# Altium footprint library cicloV2_lib.PcbLib: 18 footprints (part 1 of 2)
Each footprint in its own frame and in the unit in brackets; x right, y up, seen from the top. Pads: shape width x height; smd on the part's side, far side on the other; paste and mask are expansions set on the pad; w line width, h text height; cw(c..) or ccw(c..) is an arc to the next point about the centre after c.
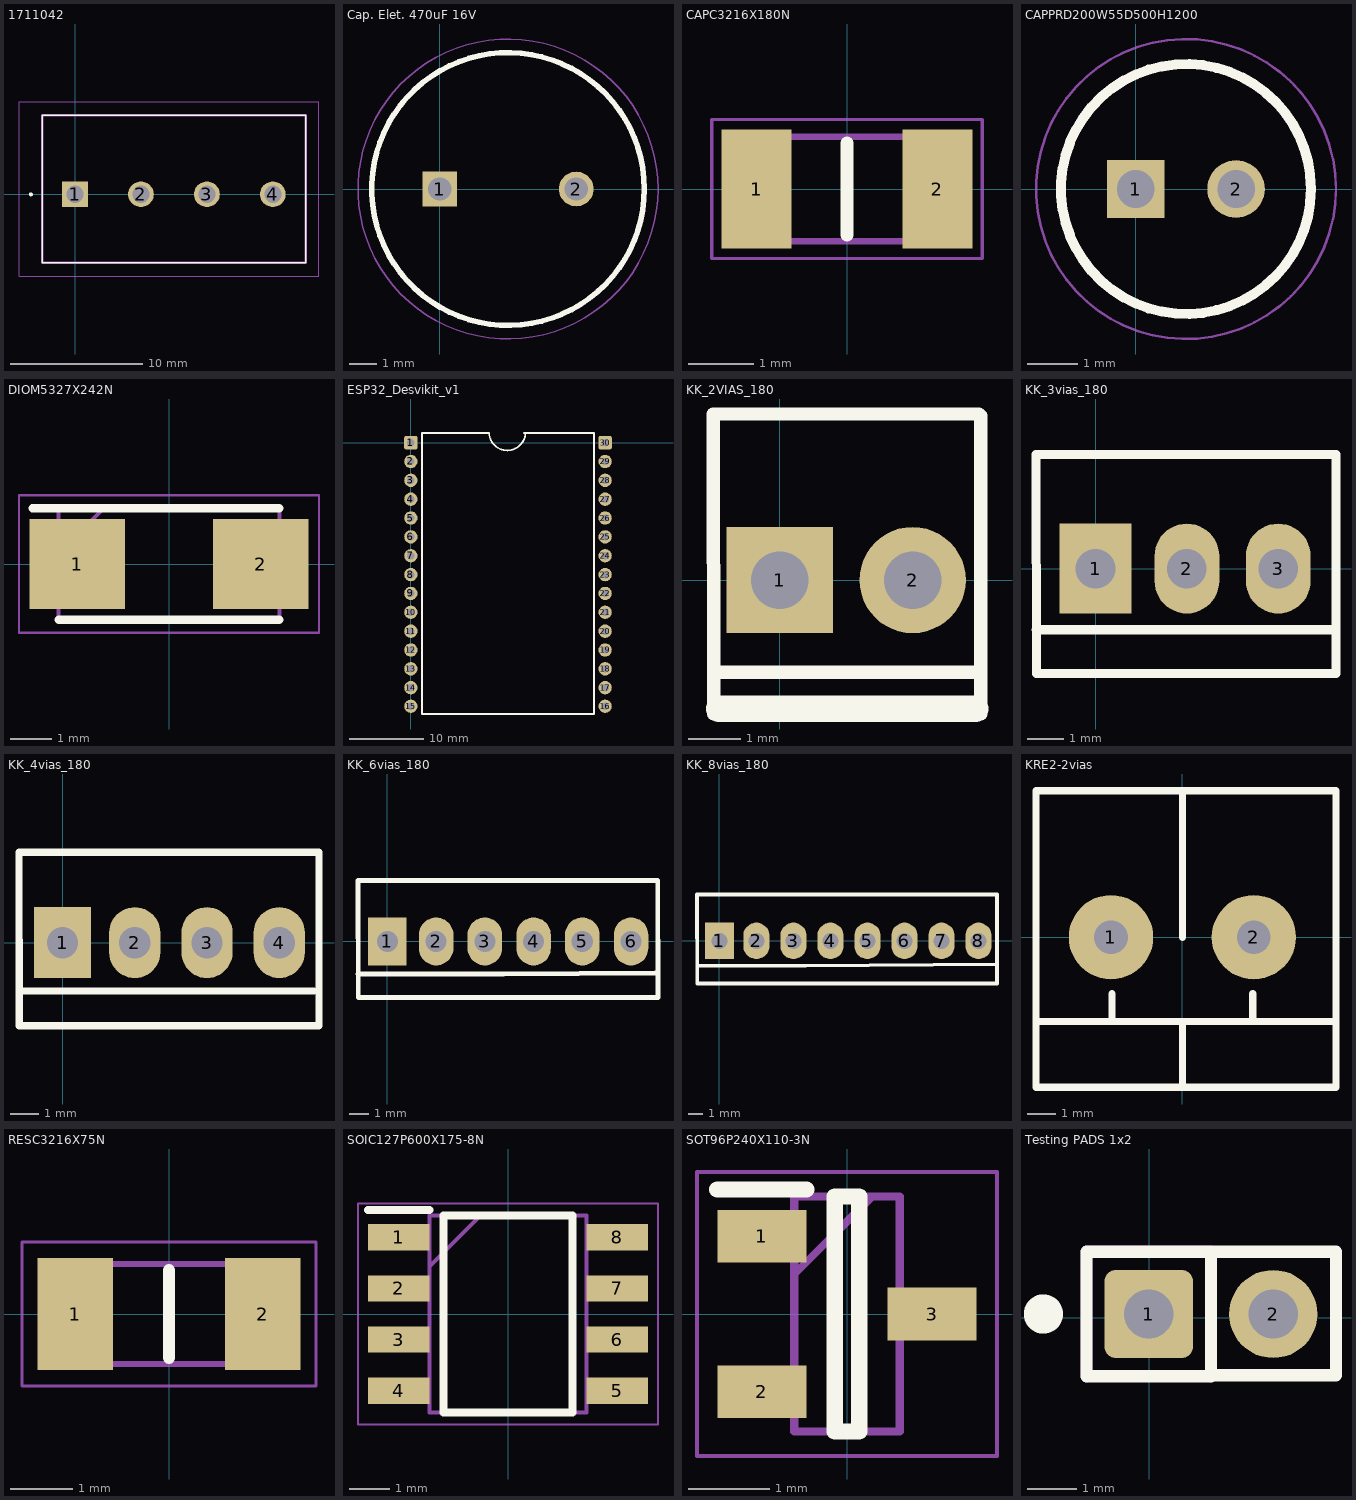
[diagram p0: the footprints below, top view; thin cyan lines are the x and y axes]

## 1711042 [mm]
pads (4):
  rect 1.95x1.95 hole 1.3: 1(0,0)
  round 1.95 hole 1.3: 2(5,0) 3(10,0) 4(15,0)
Top Overlay:
  circle w0.2: c-3.35,0 r0.05
  lines w0.1: -2.5,-5.2 17.5,-5.2 17.5,6 -2.5,6 -2.5,-5.2
Mechanical 13:
  lines w0.2: -2.5,-5.2 17.5,-5.2 17.5,6 -2.5,6 -2.5,-5.2
Mechanical 15:
  lines w0.05: -4.25,-6.2 18.5,-6.2 18.5,7 -4.25,7 -4.25,-6.2
3D body "1711042.stp": height 18.54, standoff -4.46, extent -2.51,-5.707 18.06,5.493

## Cap. Elet. 470uF 16V [mm]
pads (2):
  rect 1.275x1.275 hole 0.85: 1(0,0)
  round 1.275 hole 0.85: 2(5,0)
Top Overlay:
  circle w0.2: c2.5,0 r5
Mechanical 13:
  circle w0.1: c2.5,0 r5
Mechanical 15:
  circle w0.05: c2.5,0 r5.5
3D body "16SEPC470M.stp": height 13, standoff -10, extent -2.75,-5.247 7.75,5.247

## CAPC3216X180N [mm]
pads (2):
  rect 1.07x1.82 smd: 1(-1.38,0) 2(1.38,0)
Top Overlay:
  lines w0.2: 0,-0.7 0,0.7
Mechanical 13:
  lines w0.1: -1.6,-0.8 -1.6,0.8 1.6,0.8 1.6,-0.8 -1.6,-0.8
Mechanical 15:
  lines w0.05: -2.065,-1.06 -2.065,1.06 2.065,1.06 2.065,-1.06 -2.065,-1.06
3D body "GRM31CC80E227ME11L.stp": height 1.8, standoff 0, extent -1.6,-0.8 1.6,0.8

## CAPPRD200W55D500H1200 [mm]
pads (2):
  rect 1.15x1.15 hole 0.75: 1(0,0)
  round 1.15 hole 0.75: 2(2,0)
Top Overlay:
  circle w0.2: c1,0 r2.5
Mechanical 13:
  circle w0.1: c1,0 r2.5
Mechanical 15:
  circle w0.05: c1,0 r3
3D body "ECA-0JM221.stp": height 12, standoff -10, extent -1.75,-2.75 3.75,2.75

## DIOM5327X242N [mm]
pads (2):
  rect 2.3x2.15 smd: 1(-2.2,0) 2(2.2,0)
Top Overlay:
  lines w0.2: -3.275,1.335 2.648,1.335 ; -2.648,-1.335 2.648,-1.335
Mechanical 13:
  lines w0.1: -2.648,0.26 -1.572,1.335 ; -2.648,-1.335 2.648,-1.335 2.648,1.335 -2.648,1.335 -2.648,-1.335
Mechanical 15:
  lines w0.05: -3.6,-1.65 3.6,-1.65 3.6,1.65 -3.6,1.65 -3.6,-1.65
3D body "1N4007.stp": height 2.42, standoff 0, extent -2.648,-1.335 2.648,1.335

## ESP32_Desvikit_v1 [mm]
pads (30):
  rrect25% 1.8x1.8 hole 1: 1(0,0) 30(26.175,0)
  round 1.8 hole 1: 2(0,-2.54) 3(0,-5.08) 4(0,-7.62) 5(0,-10.16) 6(0,-12.7) 7(0,-15.24) 8(0,-17.78) 9(0,-20.32) 10(0,-22.86) 11(0,-25.4) 12(0,-27.94) 13(0,-30.48) 14(0,-33.02) 15(0,-35.52) 16(26.175,-35.52) 17(26.175,-33.02) 18(26.175,-30.48) 19(26.175,-27.94) 20(26.175,-25.4) 21(26.175,-22.86) 22(26.175,-20.32) 23(26.175,-17.78) 24(26.175,-15.24) 25(26.175,-12.7) 26(26.175,-10.16) 27(26.175,-7.62) 28(26.175,-5.08) 29(26.175,-2.54)
Top Overlay:
  lines w0.254: 10.539,1.279 1.475,1.279 1.475,-36.567 24.689,-36.567 24.689,1.279 15.21,1.279 ; 10.539,1.289 ccw(c12.989,1.406) 15.44,1.308 ; 15.469,1.279 15.91,1.279
3D body "Header_Female.STEP": height 8.4, standoff -3.15, extent 24.899,-36.62 27.399,-23.92
3D body "Header_Female.STEP": height 8.4, standoff -3.15, extent 24.899,-24.12 27.399,-11.42
3D body "Header_Female.STEP": height 8.4, standoff -3.15, extent 24.899,-11.67 27.399,1.03
3D body "Header_Female.STEP": height 8.4, standoff -3.15, extent -1.2,-36.62 1.3,-23.92
3D body "Header_Female.STEP": height 8.4, standoff -3.15, extent -1.2,-24.12 1.3,-11.42
3D body "Header_Female.STEP": height 8.4, standoff -3.15, extent -1.2,-11.67 1.3,1.03
3D body "ESP-WROOM32.STEP": height 15.1, standoff 2.7, extent -1.141,-46.026 27.359,4.904

## KK_2VIAS_180 [mil]
pads (2):
  rect 80x80 hole 43.31: 1(0,0)
  round 80 hole 43.31: 2(100,0)
Top Overlay:
  lines w10: -49.66,-69.44 149.76,-69.44 ; -49.61,-100.79 -50,125 150,125 ; 151.18,-100.79 151.18,123.62
  lines w19.68: -45.67,-96.85 147.24,-96.85
3D body "User Library-Molex 2 pines.STEP": height 468.48, standoff -133.84, extent -61.38,-108.11 165,128.11

## KK_3vias_180 [mm]
pads (3):
  rect 2x2.5 hole 1.1: 1(0,0)
  oval 1.8x2.5 hole 1.1: 2(2.54,0) 3(5.08,0)
Top Overlay:
  lines w0.254: -1.651,-1.7 6.685,-1.7 ; -1.655,3.175 6.685,3.175 6.685,-2.921 -1.644,-2.921 -1.655,3.175
3D body "User Library-Molex 3 pines.step": height 11.9, standoff -3.38, extent -1.605,-2.952 6.685,3.048

## KK_4vias_180 [mm]
pads (4):
  rect 2x2.5 hole 1.1: 1(0,0)
  oval 1.8x2.5 hole 1.1: 2(2.54,0) 3(5.08,0) 4(7.62,0)
Top Overlay:
  lines w0.254: -1.524,-1.7 6.05,-1.7 8.841,-1.7 ; -1.534,3.175 -1.523,-2.921 6.685,-2.921 9.017,-2.921 9.017,-2.667 9.017,3.175 6.685,3.175 -1.534,3.175
3D body "KK_2.54_4VIAS.stp": height 11.72, standoff -3.54, extent -1.397,-2.794 8.763,3.006

## KK_6vias_180 [mm]
pads (6):
  rect 2x2.5 hole 1.1: 1(0,0)
  oval 1.8x2.5 hole 1.1: 2(2.54,0) 3(5.08,0) 4(7.62,0) 5(10.16,0) 6(12.7,0)
Top Overlay:
  lines w0.254: -1.524,-1.7 6.05,-1.7 13.97,-1.642 ; 14.097,-2.921 9.017,-2.921 6.685,-2.921 -1.523,-2.921 -1.534,3.175 6.685,3.175 14.096,3.175 14.107,-2.921
3D body "User Library-molex kk 0_1in latching 6 way vertical header.STEP": height 11.7, standoff -3.54, extent -1.397,-2.794 13.843,3.048

## KK_8vias_180 [mm]
pads (8):
  rect 2x2.5 hole 1.1: 1(0,0)
  oval 1.8x2.5 hole 1.1: 2(2.54,0) 3(5.08,0) 4(7.62,0) 5(10.16,0) 6(12.7,0) 7(15.24,0) 8(17.78,0)
Top Overlay:
  lines w0.254: -1.524,-1.7 5.923,-1.7 19.049,-1.603 ; -1.534,3.175 -1.523,-2.921 6.685,-2.921 9.017,-2.921 19.05,-2.921 19.05,3.175 14.096,3.175 6.685,3.175 -1.534,3.175
3D body "User Library-molex kk 0_1in latching 8 way vertical header.STEP": height 11.8, standoff -3.44, extent -1.397,-2.743 18.923,3.099

## KRE2-2vias [mm]
pads (2):
  round 3 hole 1.2: 1(-2.54,0) 2(2.54,0)
Top Overlay:
  lines w0.254: -5.207,-3 5.461,-3 ; -2.5,-3 -2.5,-2 ; 0,-5.334 0,-3 ; 0,0 0,5.207 ; 2.5,-3 2.5,-2 ; -5.207,-5.334 5.461,-5.334 5.46,5.207 -5.207,5.207 -5.207,-5.334
3D body "User Library-TER-KF128-2P.STEP": height 14.35, standoff -4.95, extent -5.126,-5.334 5.634,5.166

## RESC3216X75N [mm]
pads (2):
  rect 1.2x1.8 smd: 1(-1.5,0) 2(1.5,0)
Top Overlay:
  lines w0.2: 0,-0.7 0,0.7
Mechanical 13:
  lines w0.1: -1.6,-0.8 1.6,-0.8 1.6,0.8 -1.6,0.8 -1.6,-0.8
Mechanical 15:
  lines w0.05: -2.35,-1.15 2.35,-1.15 2.35,1.15 -2.35,1.15 -2.35,-1.15
3D body "CR1206-F_-2R00ELF.stp": height 0.75, standoff 0, extent -1.6,-0.8 1.6,0.8

## SOIC127P600X175-8N [mm]
pads (8):
  rect 1.525x0.65 smd: 1(-2.712,1.905) 2(-2.712,0.635) 3(-2.712,-0.635) 4(-2.712,-1.905) 5(2.712,-1.905) 6(2.712,-0.635) 7(2.712,0.635) 8(2.712,1.905)
Top Overlay:
  lines w0.2: -3.475,2.58 -1.95,2.58 ; -1.6,-2.45 1.6,-2.45 1.6,2.45 -1.6,2.45 -1.6,-2.45
Mechanical 13:
  lines w0.1: -1.95,1.18 -0.68,2.45 ; -1.95,-2.45 1.95,-2.45 1.95,2.45 -1.95,2.45 -1.95,-2.45
Mechanical 15:
  lines w0.05: -3.725,-2.75 3.725,-2.75 3.725,2.75 -3.725,2.75 -3.725,-2.75
3D body "NE555DR.stp": height 1.75, standoff 0, extent -3,-2.45 3,2.45

## SOT96P240X110-3N [mm]
pads (3):
  rect 1.1x0.65 smd: 1(-1.05,0.96) 2(-1.05,-0.96) 3(1.05,0)
Top Overlay:
  lines w0.2: -1.6,1.535 -0.5,1.535 ; -0.15,-1.45 0.15,-1.45 0.15,1.45 -0.15,1.45 -0.15,-1.45
Mechanical 13:
  lines w0.1: -0.65,0.49 0.31,1.45 ; -0.65,-1.45 0.65,-1.45 0.65,1.45 -0.65,1.45 -0.65,-1.45
Mechanical 15:
  lines w0.05: -1.85,-1.75 1.85,-1.75 1.85,1.75 -1.85,1.75 -1.85,-1.75
3D body "BC817-25-7-F.stp": height 1.1, standoff 0, extent -1.2,-1.45 1.2,1.45

## Testing PADS 1x2 [mm]
pads (2):
  rrect25% 1.8x1.8 hole 1: 1(-0.01,0.075)
  round 1.8 hole 1: 2(2.53,0.075)
Top Overlay:
  circle w0.5: c-2.16,0.075 r0.15
  lines w0.254: -1.28,1.345 3.81,1.345 3.81,-1.175 1.28,-1.175 1.26,-1.195 ; -1.28,1.345 -1.28,-1.195 1.26,-1.195 ; -1.28,1.345 1.26,1.345 1.26,-1.195
Mechanical 3:
  lines w0.254: -1.28,-1.195 -1.28,1.345 1.26,1.345 1.26,-1.195